# EAGLE library part SPEAKJET (library SparkFun)
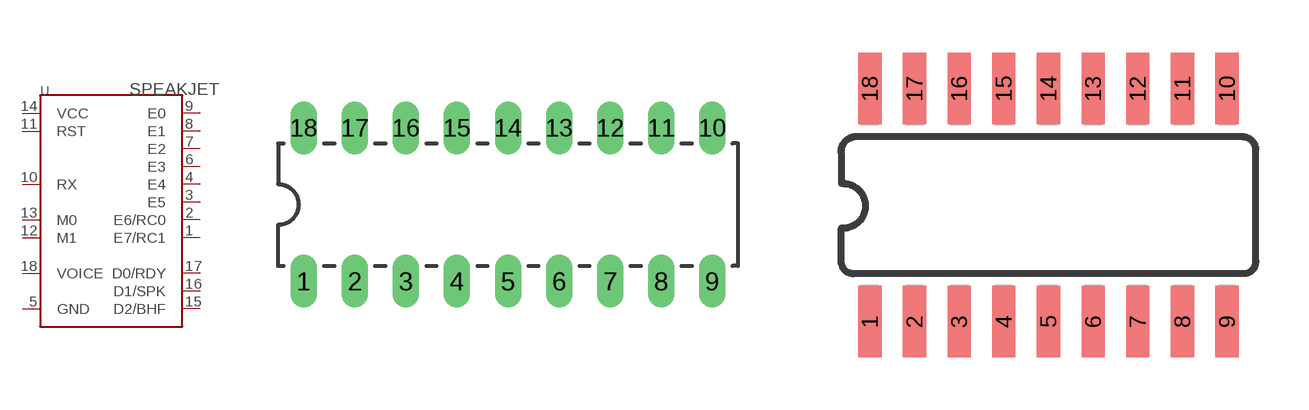
[diagram p277: symbol with the pads of DIL18; footprints DIL18, SOIC-18]

Designator prefix U

## SPEAKJETDIP  [DIL18]
1  E7/RC1
2  E6/RC0
3  E5
4  E4
5  GND
6  E3
7  E2
8  E1
9  E0
10  RX
11  RST
12  M1
13  M0
14  VCC
15  D2/BHF
16  D1/SPK
17  D0/RDY
18  VOICE

## SPEAKJETSMD  [SOIC-18]
Pads as for DIL18

## Footprint DIL18 (pad centres in mm)
Dual In Line Package
drill 0.813 long: 1 -10.16,-3.81; 2 -7.62,-3.81; 3 -5.08,-3.81; 4 -2.54,-3.81; 5 0,-3.81; 6 2.54,-3.81; 7 5.08,-3.81; 8 7.62,-3.81; 9 10.16,-3.81; 10 10.16,3.81; 11 7.62,3.81; 12 5.08,3.81; 13 2.54,3.81; 14 0,3.81; 15 -2.54,3.81; 16 -5.08,3.81; 17 -7.62,3.81; 18 -10.16,3.81

## Footprint SOIC-18 (pad centres in mm)
smd 0.66 x 2.032: 1 -7.685,-3.285; 2 -6.415,-3.285; 3 -5.145,-3.285; 4 -3.875,-3.285; 5 -2.605,-3.285; 6 -1.335,-3.285; 7 -0.065,-3.285; 8 1.205,-3.285; 9 2.475,-3.285; 10 2.475,3.345; 11 1.205,3.345; 12 -0.065,3.345; 13 -1.335,3.345; 14 -2.605,3.345; 15 -3.875,3.345; 16 -5.145,3.345; 17 -6.415,3.345; 18 -7.685,3.345